# Altium schematic symbol library Schlib_Lenobitech.SchLib: 15 symbols
Pins are listed as number, name and electrical type; pins without a type are passive.

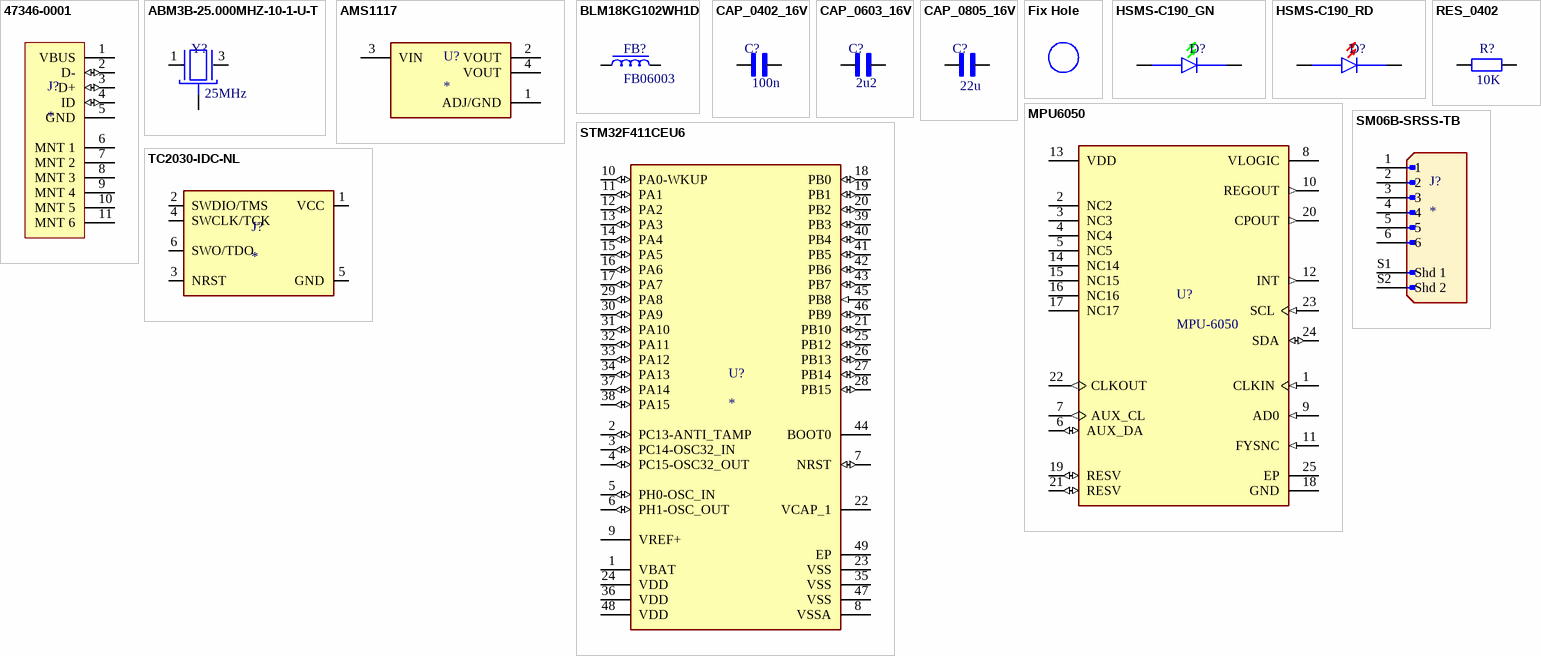
[diagram p0: symbols 47346-0001 to TC2030-IDC-NL]

## 47346-0001
designator J?
USB Connectors MICRO USB B RECPT BTTM MOUNT ASSY; MP: 47346-0001; MF: Molex; Package: None; Purchase-URL: https://pricing.snapeda.com/search/part/47346-0001/?ref=eda; Check_prices: https://www.snapeda.com/parts/47346-0001/Molex/view-part/53503/?ref=eda; Value: *; Availability: Warning; Price: None; SnapEDA_Link: https://www.snapeda.com/parts/47346-0001/Molex/view-part/53503/?ref=snap
footprint MOLEX_47346-0001
pins: 1 VBUS (power), 2 D- (io), 3 D+ (io), 4 ID (io), 5 GND (power), 6 MNT 1, 7 MNT 2, 8 MNT 3, 9 MNT 4, 10 MNT 5, 11 MNT 6

## ABM3B-25.000MHZ-10-1-U-T
designator Y?  value 25MHz  (hidden comment: *)
25 MHz Â±10ppm Crystal 10pF 50 Ohms 4-SMD, No Lead; MF: Abracon; MP: ABM3B-25.000MHZ-10-1-U-T; Check_prices: https://www.snapeda.com/parts/ABM3B-25.000MHZ-10-1-U-T/Abracon+LLC/view-part/?ref=eda; SnapEDA_Link: https://www.snapeda.com/parts/ABM3B-25.000MHZ-10-1-U-T/Abracon+LLC/view-part/?ref=snap; Availability: In Stock; Purchase-URL: https://pricing.snapeda.com/search/part/ABM3B-25.000MHZ-10-1-U-T/?ref=eda; Package: SMD-4 Abracon LLC; Price: None
footprint OSC_ABM3B-25.000MHZ-10-1-U-T
pins: 1, 2 GND (power), 3, 4 GND (power)

## AMS1117
designator U?
Sot223/Pkg 1-Amp 5-Volt Low Drop Out Voltage Regulatator; MP: AMS1117; Value: *; Availability: Unavailable; Price: None; Package: None
footprint SOT229P700X180-4N
pins: 1 ADJ/GND (power), 2 VOUT, 3 VIN, 4 VOUT

## BLM18KG102WH1D
designator FB?, comment FB06003
1 kOhms @ 100MHz 1 GÃ¼Ã§ HattÄ± Ferrit Boncuk 0603 (1608 Metrik) 800mA 230mOhm; MP: BLM18KG102WH1D; MF: Murata; Price: None; Package: 0603 Murata; Purchase-URL: https://pricing.snapeda.com/search/part/BLM18KG102WH1D/?ref=eda; Availability: Good; SnapEDA_Link: https://www.snapeda.com/parts/BLM18KG102WH1D/Murata/view-part/4970268/?ref=snap; Check_prices: https://www.snapeda.com/parts/BLM18KG102WH1D/Murata/view-part/4970268/?ref=eda; Value: *
footprint BEADC1608X75N
pins: 1, 2

## CAP_0402_16V
designator C?, comment value 100n  (hidden comment: CAP_0402)
C0402C104K4RAC7411_KEMET / 0.1ÂµF Â±10% 16V Ceramic Capacitor X7R 0402 (1005 Metric); MF: KEMET; MP: C0402C104K4RAC7411; SnapEDA_Link: https://www.snapeda.com/parts/C0402C104K4RAC7411/KEMET/view-part/3213918/?ref=snap; Package: 1005 KEMET; Digi-Key_Part_Number: 399-C0402C104K4RAC7411CT-ND
footprint CAPC1005X55N
pins: 1, 2

## CAP_0603_16V
designator C?, comment value 2u2  (hidden comment: CAP_0603)
C0603C225K4PACTU / 2.2ÂµF Â±10% 16V Ceramic Capacitor X5R 0603 _1608 Metric_; MF: KEMET; SnapEDA_Link: https://www.snapeda.com/parts/C0603C225K4PACTU/KEMET/view-part/609526/?ref=snap; Availability: Unavailable; Price: None; MP: C0603C225K4PACTU; Package: 0603 KEMET
footprint CAPC1608X90N
pins: 1, 2

## CAP_0805_16V
designator C?  value 22u  (hidden comment: *)
C0805C226M8PAC7800 / 22ÂµF Â±20% 16V Ceramic Capacitor X5R 0805 _2012 Metric_; MF: KEMET; SnapEDA_Link: https://www.snapeda.com/parts/C0805C226M8PAC7800/KEMET/view-part/3932518/?ref=snap; Package: 2012 KEMET; MP: C0805C226M8PAC7800; Digi-Key_Part_Number: 399-12069-1-ND; Digi-Key_Purchase_URL: https://www.digikey.com/product-detail/en/kemet/C0805C226M8PAC7800/399-12069-1-ND/5327671?utm_source=snapeda&utm_medium=aggregator&utm_campaign=symbol
footprint CAPC2012X145N
pins: 1, 2

## Fix Hole
designator ?  (mechanical)
Through Hole 2.54mm; MP: 1722872105; Availability: Unavailable; Package: None; Price: None
footprint Fix-Hole-2mm

## HSMS-C190_GN
designator D?  (value not drawn)
Green 626nm LED Indication - Discrete 2.1V 0603 _1608 Metric_; MP: HSMS-C190; MF: Broadcom Limited; Package: 0603 Broadcom; Price: None; Availability: Unavailable; SnapEDA_Link: https://www.snapeda.com/parts/HSMS-C190/Broadcom%20Limited/view-part/1781258/?ref=snap
footprint LEDM1608X80
pins: A, K

## HSMS-C190_RD
designator D?, comment HSMS-C190_1  (value not drawn)
Red 626nm LED Indication - Discrete 2.1V 0603 _1608 Metric_; MF: Broadcom Limited; MP: HSMS-C190; Package: 0603 Broadcom; Price: None; Availability: Unavailable; SnapEDA_Link: https://www.snapeda.com/parts/HSMS-C190/Broadcom%20Limited/view-part/1781258/?ref=snap
footprint LEDM1608X80
pins: A, K

## MPU6050
designator U?, comment MPU-6050
Is the worldâ€™s first integrated 6-axis MotionTracking device that combines a 3-axis gyroscope, 3-axis accelerometer, and a Digital Motion Processorâ„¢ (DMP) all in a small 4x4x0.9mm Package.; MP: MPU6050; Package: None; Availability: Unavailable; Value: *; Price: None
footprint IC_MPU6050
pins: 1 CLKIN (in), 2 NC2, 3 NC3, 4 NC4, 5 NC5, 6 AUX_DA (io), 7 AUX_CL (out), 8 VLOGIC (power), 9 AD0 (in), 10 REGOUT (out), 11 FYSNC (in), 12 INT (out), 13 VDD (power), 14 NC14, 15 NC15, 16 NC16, 17 NC17, 18 GND (power), 19 RESV (io), 20 CPOUT (out), 21 RESV (io), 22 CLKOUT (out), 23 SCL (in), 24 SDA (io), 25 EP (power)

## RES_0402
designator R?  value 10K  (hidden comment: RES_0402)
AC0402 10K 5% 0,063W AUTOMO; MP: AC0402JR-0710KL; Package: None; Price: None; Availability: Unavailable
footprint RESC1005X37N
pins: 1, 2

## SM06B-SRSS-TB
designator J?
Connector Header Surface Mount, Right Angle 6 position 0.039" (1.00mm); MP: 1722872105; Value: *; Availability: Unavailable; Package: None; Price: None
footprint JST_SM06B-SRSS-TB(LF)(SN)
pins: 1, 2, 3, 4, 5, 6, S1 Shd 1, S2 Shd 2

## STM32F411CEU6
designator U?
ARMÂ® CortexÂ®-M4 STM32F4 Microcontroller IC 32-Bit 100MHz 512KB (512K x 8) FLASH 48-UFQFPN (7x7); MP: STM32F411CEU6; MF: STMicroelectronics; Price: None; DigiKey-Purchase-URL: https://snapeda.com/shop?store=DigiKey&id=383021; Package: UFQFN-48 STMicroelectronics; Mouser-Purchase-URL: https://snapeda.com/shop?store=Mouser&id=383021; SnapEDA_Link: https://www.snapeda.com/parts/STM32F411CEU6/STMicroelectronics/view-part/383021/?ref=snap; Availability: Good; Value: *
footprint QFN50P700X700X60-49N
pins: 1 VBAT, 2 PC13-ANTI_TAMP (io), 3 PC14-OSC32_IN (io), 4 PC15-OSC32_OUT (io), 5 PH0-OSC_IN (io), 6 PH1-OSC_OUT (io), 7 NRST (io), 8 VSSA (power), 9 VREF+, 10 PA0-WKUP (io), 11 PA1 (io), 12 PA2 (io), 13 PA3 (io), 14 PA4 (io), 15 PA5 (io), 16 PA6 (io), 17 PA7 (io), 18 PB0 (io), 19 PB1 (io), 20 PB2 (io), 21 PB10 (io), 22 VCAP_1 (power), 23 VSS (power), 24 VDD, 25 PB12 (io), 26 PB13 (io), 27 PB14 (io), 28 PB15 (io), 29 PA8 (io), 30 PA9 (io), 31 PA10 (io), 32 PA11 (io), 33 PA12 (io), 34 PA13 (io), 35 VSS (power), 36 VDD, 37 PA14 (io), 38 PA15 (io), 39 PB3 (io), 40 PB4 (io), 41 PB5 (io), 42 PB6 (io), 43 PB7 (io), 44 BOOT0, 45 PB8 (in), 46 PB9 (io), 47 VSS (power), 48 VDD, 49 EP (power)

## TC2030-IDC-NL
designator J?
CABLE ADAPTER 6 POS; MP: TC2030-IDC-NL; Value: *; Availability: Unavailable; Package: None; Price: None
footprint TAG_TC2030-IDC-NL
pins: 1 VCC, 2 SWDIO/TMS, 3 NRST, 4 SWCLK/TCK, 5 GND, 6 SWO/TDO